# EAGLE library part ALL_SENSORS_DLHR_E1ND (library microbuilder)
All Sensors DLHR sensor, E1ND package 8 pin DIP 100 mil pin spacing 600 mil between pin rows 2 barbed pressure ports, same side
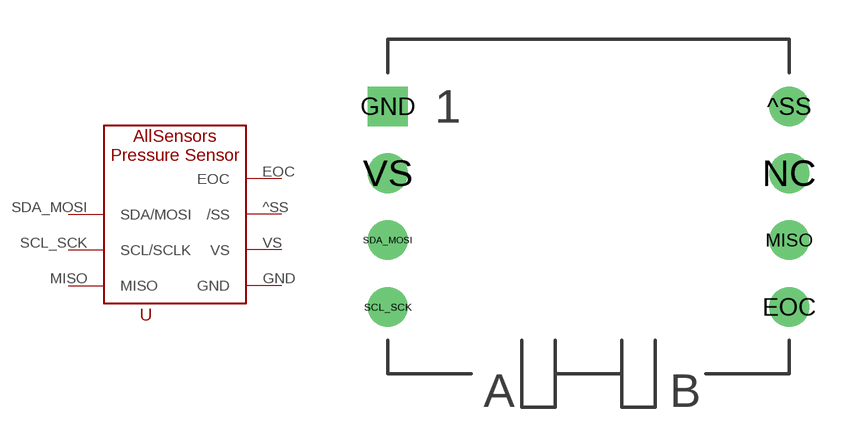
[diagram p132: symbol with the pads of ALL_SENSORS_E1BD_8PIN_THRU; footprint ALL_SENSORS_E1BD_8PIN_THRU]

Designator prefix U

## ALL_SENSORS_DLHR_E1ND  [ALL_SENSORS_E1BD_8PIN_THRU]
^SS  /SS  in
EOC  EOC
GND  GND  pwr
MISO  MISO  in
SCL_SCK  SCL/SCLK
SDA_MOSI  SDA/MOSI
VS  VS  pwr

## Footprint ALL_SENSORS_E1BD_8PIN_THRU (pad centres in mm)
drill 1: ^SS 7.62,3.81; EOC 7.62,-3.81; MISO 7.62,-1.27; NC 7.62,1.27; SCL_SCK -7.62,-3.81; SDA_MOSI -7.62,-1.27; VS -7.62,1.27
drill 1 square: GND -7.62,3.81